# Altium schematic symbol library usb_bus_ics.SchLib: 1 symbol
Pins are listed as number, name and electrical type; pins without a type are passive.

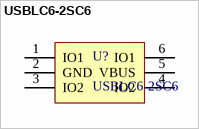
[diagram p0: symbol USBLC6-2SC6]

## USBLC6-2SC6
designator U?
Very low capacitance ESD protection for the USB bus.; Manufacturer: ST; Value: USBLC6-2SC6; Part Number: USBLC6-2SC6
footprint USBLC6-2SC6-SOT23-6L (SOT23, 6-Leads, Body 2,93x2,80mm, Pitch 0,95mm, IPC Medium Density)
pins: 1 IO1, 2 GND, 3 IO2, 4 IO2, 5 VBUS, 6 IO1